# EAGLE library part 16P_CONNECTOR (library 8P_Connector holes_Screwterminal)
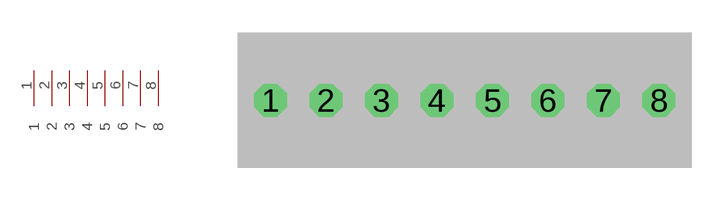
[diagram p0: symbol with the pads of 16P_CONNECTOR_FP; footprint 16P_CONNECTOR_FP]

Designator prefix -

## 16P_CONNECTOR  [16P_CONNECTOR_FP]
1  1
2  2
3  3
4  4
5  5
6  6
7  7
8  8

## Footprint 16P_CONNECTOR_FP (pad centres in mm)
drill 1 octagon: 1 0,0; 2 2.54,0; 3 5.08,0; 4 7.62,0; 5 10.16,0; 6 12.7,0; 7 15.24,0; 8 17.78,0